# EAGLE library part NODEMCU32S (library NODEMCU32S)
Check availability <https://pricing.snapeda.com/parts/NODEMCU-32S/AI-Thinker/view-part?ref=eda>
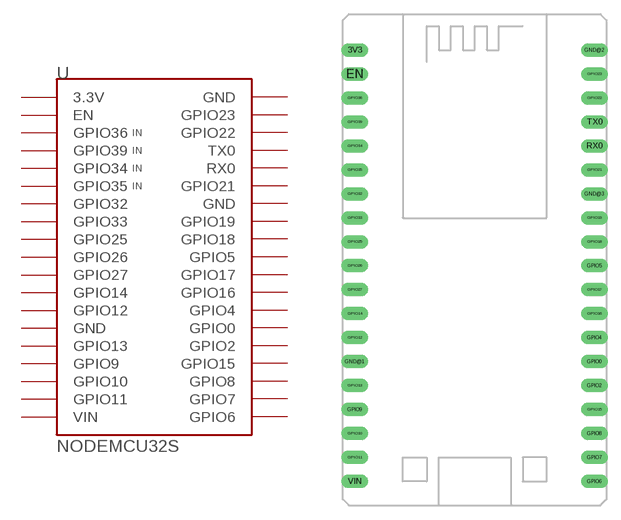
[diagram p0: symbol with the pads of NODEMCU32S; footprint NODEMCU32S]

Designator prefix -

## NODEMCU32S (Availability: Not in stock; Description: WIFI MODULE V1; MF: AI-Thinker; MP: NODEMCU-32S; Package: Package; Price: None)  [NODEMCU32S]
3V3  3.3V
EN  EN
GND@1  GND
GND@2  GND
GND@3  GND
GPIO0  GPIO0
GPIO2  GPIO2
GPIO4  GPIO4
GPIO5  GPIO5
GPIO6  GPIO6
GPIO7  GPIO7
GPIO8  GPIO8
GPIO9  GPIO9
GPIO10  GPIO10
GPIO11  GPIO11
GPIO12  GPIO12
GPIO13  GPIO13
GPIO14  GPIO14
GPIO15  GPIO15
GPIO16  GPIO16
GPIO17  GPIO17
GPIO18  GPIO18
GPIO19  GPIO19
GPIO21  GPIO21
GPIO22  GPIO22
GPIO23  GPIO23
GPIO25  GPIO25
GPIO26  GPIO26
GPIO27  GPIO27
GPIO32  GPIO32
GPIO33  GPIO33
GPIO34  GPIO34  in
GPIO35  GPIO35  in
GPIO36  GPIO36  in
GPIO39  GPIO39  in
RX0  RX0
TX0  TX0
VIN  VIN

## Footprint NODEMCU32S (pad centres in mm)
drill 0.9 pad 1.422 long: 3V3 -13.97,21.59; EN -13.97,19.05; GND@1 -13.97,-11.43; GND@2 11.43,21.59; GND@3 11.43,6.35; GPIO0 11.43,-11.43; GPIO2 11.43,-13.97; GPIO4 11.43,-8.89; GPIO5 11.43,-1.27; GPIO6 11.43,-24.13; GPIO7 11.43,-21.59; GPIO8 11.43,-19.05; GPIO9 -13.97,-16.51; GPIO10 -13.97,-19.05; GPIO11 -13.97,-21.59; GPIO12 -13.97,-8.89; GPIO13 -13.97,-13.97; GPIO14 -13.97,-6.35; GPIO15 11.43,-16.51; GPIO16 11.43,-6.35; GPIO17 11.43,-3.81; GPIO18 11.43,1.27; GPIO19 11.43,3.81; GPIO21 11.43,8.89; GPIO22 11.43,16.51; GPIO23 11.43,19.05; GPIO25 -13.97,1.27; GPIO26 -13.97,-1.27; GPIO27 -13.97,-3.81; GPIO32 -13.97,6.35; GPIO33 -13.97,3.81; GPIO34 -13.97,11.43; GPIO35 -13.97,8.89; GPIO36 -13.97,16.51; GPIO39 -13.97,13.97; RX0 11.43,11.43; TX0 11.43,13.97; VIN -13.97,-24.13